# EAGLE library part DIGI-CONNECT-ME (library berkeley-epic)
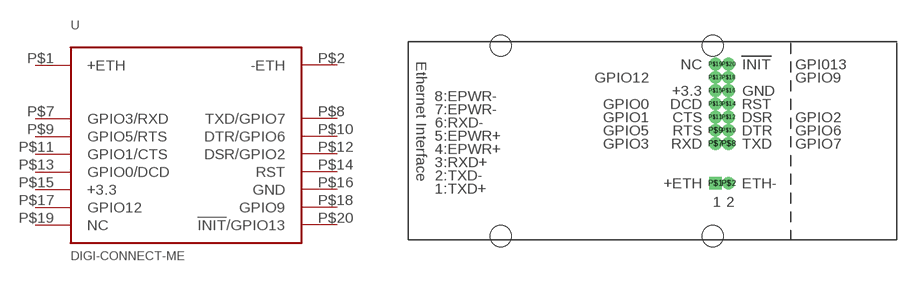
[diagram p15: symbol with the pads of DIGI-CONNECT-ME; footprint DIGI-CONNECT-ME]

Designator prefix U

## DIGI-CONNECT-ME  [DIGI-CONNECT-ME]
P$1  +ETH
P$2  -ETH
P$7  GPIO3/RXD
P$8  TXD/GPIO7
P$9  GPIO5/RTS
P$10  DTR/GPIO6
P$11  GPIO1/CTS
P$12  DSR/GPIO2
P$13  GPIO0/DCD
P$14  RST
P$15  +3.3
P$16  GND
P$17  GPIO12
P$18  GPIO9
P$19  NC
P$20  !INIT!/GPIO13

## Footprint DIGI-CONNECT-ME (pad centres in mm)
drill 0.7 pad 0.889 square: P$1 10.414,-4.064
drill 0.7 pad 0.889: P$2 11.684,-4.064; P$7 10.414,-0.254; P$8 11.684,-0.254; P$9 10.414,1.016; P$10 11.684,1.016; P$11 10.414,2.286; P$12 11.684,2.286; P$13 10.414,3.556; P$14 11.684,3.556; P$15 10.414,4.826; P$16 11.684,4.826; P$17 10.414,6.096; P$18 11.684,6.096; P$19 10.414,7.366; P$20 11.684,7.366
hole 2.032 at 10.16,9.144
hole 2.032 at -10.16,9.144
hole 2.032 at -10.16,-9.144
hole 2.032 at 10.16,-9.144